# Altium schematic symbol library kmilo17pet-TI_StepDown.SchLib: 565 symbols (part 25 of 33)
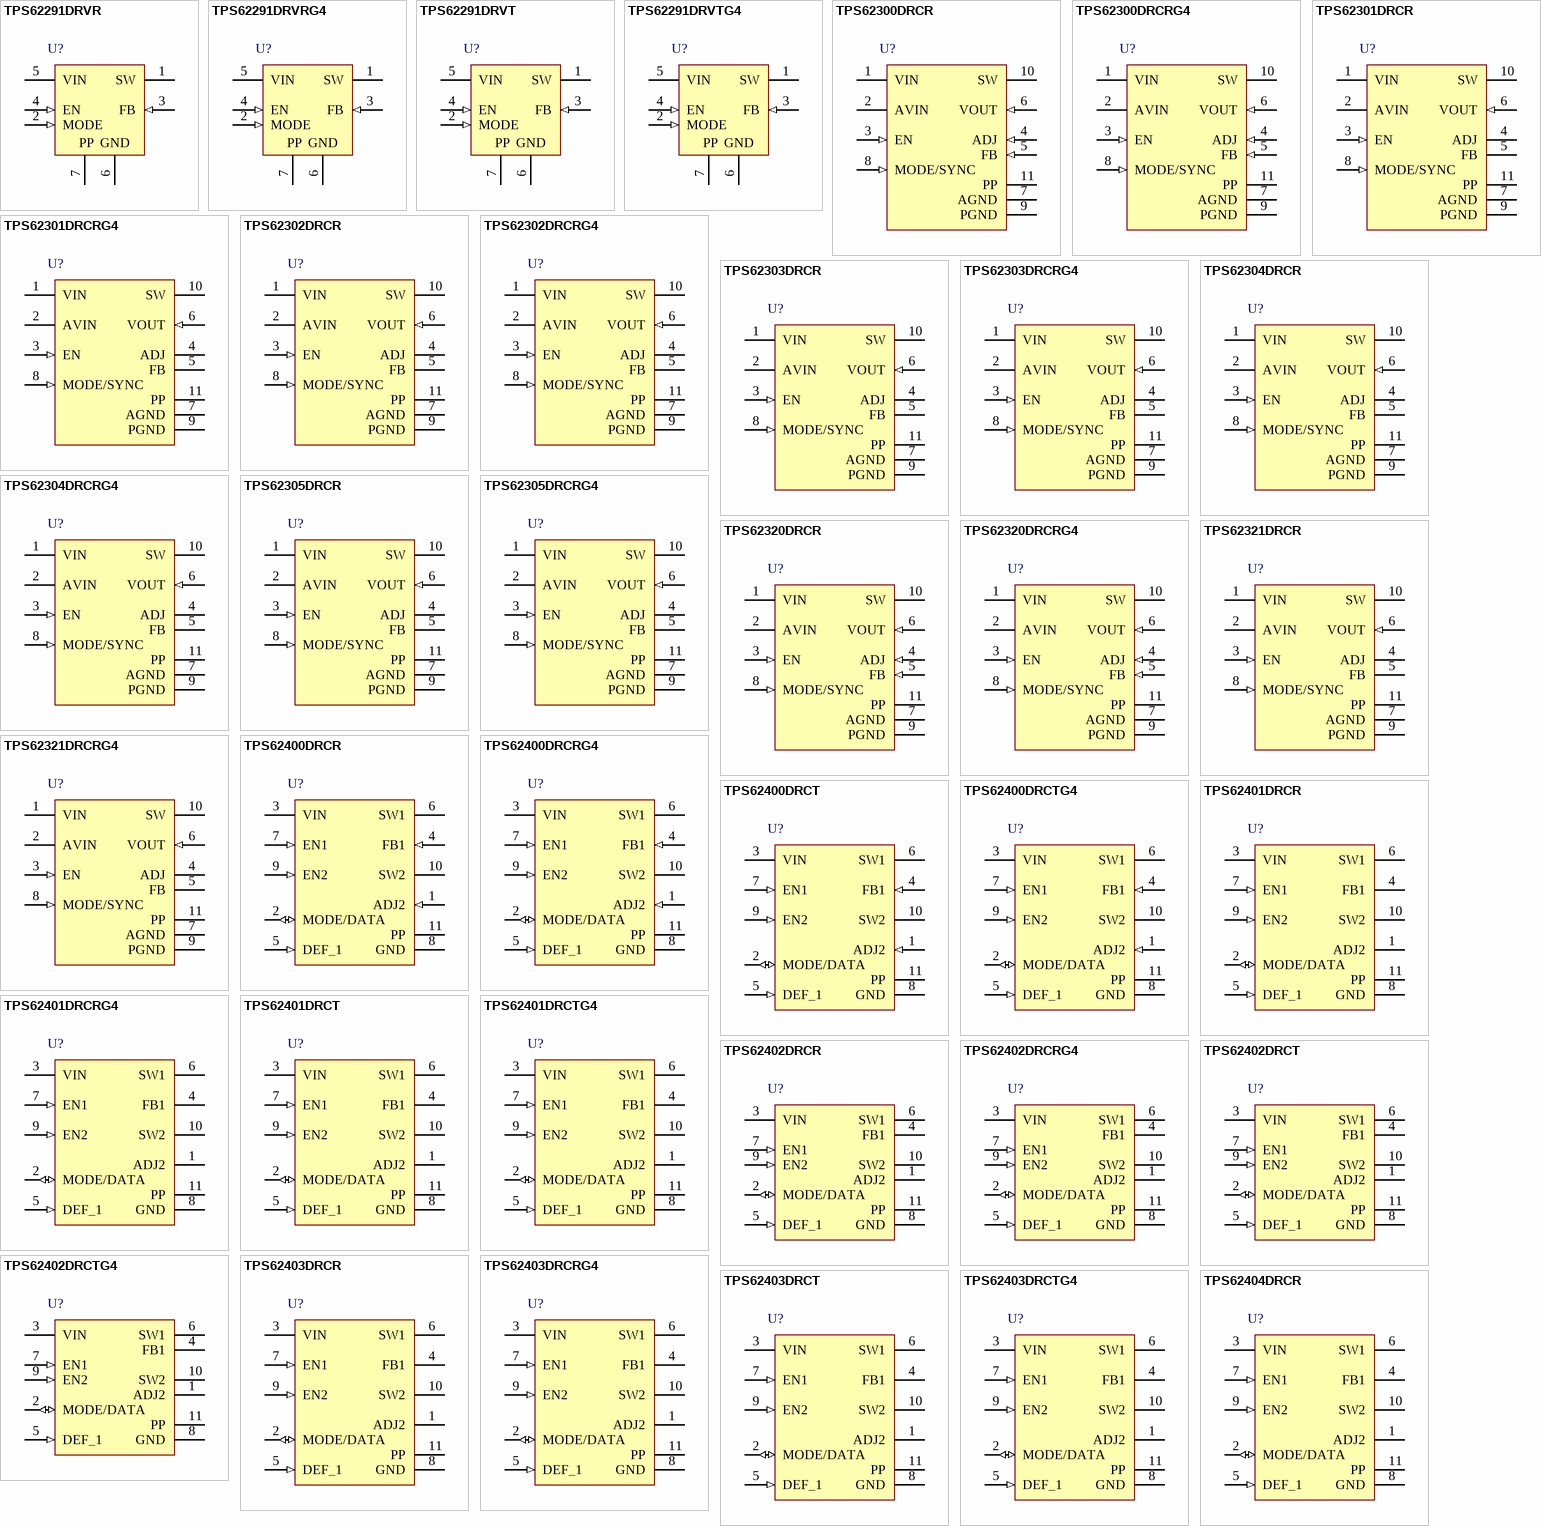
[diagram p43: symbols TPS62291DRVR to TPS62404DRCR]

## TPS62300DRCR
designator U?
Buck Adjustable Regulator with 2.7 to 6 V Input and 0.6 to 5.4 V Output, -40 to 85 degC, 10-Pin SON (DRC), Green (RoHS & no Sb/Br); Manufacturer: Texas Instruments; PartNumber: TPS62300DRCR; Duty Cycle(Max)(%): 100; Iout(Max)(A): 0.5; Iq(Typ)(mA): 0.086; Rating: Catalog; Regulated Outputs(#): 1; SubFamily: Step-Down Regulator; Switch Current Limit(Typ)(A): 0.74; Synchronous Rectification: TRUE; Vin(Max)(V): 6; Vin(Min)(V): 2.7; Vout(Max)(V): 5.4; Vout(Min)(V): 0.6; DatasheetVersion: SLVS528E; PackageVersion: revL, Sep-2011; PackageReference: DRC10-2400X1650TP; PackageDescription: 10-Pin Plastic Small Outline No-Lead, 3 x 3 x 1 mm Body, 0.5 mm Pitch, Exposed Pad; Supplier 1: Digi-Key; Supplier Part Number 1: 296-17594-2-ND; Eco-Plan: Green (RoHS & no Sb/Br); Topology: Buck; Mounting Technology: Surface Mount; ComponentLink1Description: Datasheet; ComponentLink1URL: http://www.ti.com/general/docs/lit/getliterature.tsp?genericPartNumber=TPS62300&fileType=pdf; ComponentLink2Description: Package Specification; ComponentLink2URL: http://www.ti.com/litv/pdf/mpds117k; ComponentLink3Description: URL Link1; ComponentLink3URL: Samples URL:http://www.ti.com/product/tps62300#samples
footprint DRC10-2400X1650TP (SON, 10-Leads, Body 3x3mm, Pitch 0.5mm, Thermal Pad 2.4x1.65mm, TI Recommended)
pins: 1 VIN (power) "Supply voltage for output power stage.", 2 AVIN (power) "This is the input voltage pin of the device. Connect directly to the input bypass capacitor.", 3 EN (in) "This is the enable pin of the device. Connecting this pin to ground forces the device into shutdown mode. Pulling this pin to VI enables the device. This pin must not be left floating and must be terminated.", 4 ADJ (in) "This is the internal reference voltage used to regulate VO. This pin is not connected on fixed output voltage version of TPS6230xDRC and TPS6232xDRC. Do not connect ADJ pin on fixed output voltage version of TPS6230xYZD, (See Datasheet)", 5 FB (in) "This is the feedback pin of the device. For the adjustable version, an external resistor divider is connected to this pin. The internal voltage divider is disabled for the adjustable version. This pin is not connected on (See Datasheet)", 6 VOUT (in) "Output feedback sense input. Connect VOUT to the converter’s output.", 7 AGND (power) "Analog ground. Connect to PGND via the PowerPAD underneath IC.", 8 MODE/SYNC (in) "Input for synchronization to external clock signal. This pin must not be left floating and must be terminated. Synchronizes the converter switching frequency to an external clock signal MODE/SYNC = LOW (GND):The device is (See Datasheet)", 9 PGND (power) "Power ground.", 10 SW (power) "This is the switch pin of the converter and is connected to the drain of the internal Power MOSFETs", 11 PP (power) "Exposed Thermal Pad"

## TPS62300DRCRG4
designator U?
Buck Adjustable Regulator with 2.7 to 6 V Input and 0.6 to 5.4 V Output, -40 to 85 degC, 10-Pin SON (DRC), Green (RoHS & no Sb/Br); Manufacturer: Texas Instruments; PartNumber: TPS62300DRCRG4; Duty Cycle(Max)(%): 100; Iout(Max)(A): 0.5; Iq(Typ)(mA): 0.086; Rating: Catalog; Regulated Outputs(#): 1; SubFamily: Step-Down Regulator; Switch Current Limit(Typ)(A): 0.74; Synchronous Rectification: TRUE; Vin(Max)(V): 6; Vin(Min)(V): 2.7; Vout(Max)(V): 5.4; Vout(Min)(V): 0.6; DatasheetVersion: SLVS528E; PackageVersion: revL, Sep-2011; PackageReference: DRC10-2400X1650TP; PackageDescription: 10-Pin Plastic Small Outline No-Lead, 3 x 3 x 1 mm Body, 0.5 mm Pitch, Exposed Pad; Supplier 1: Digi-Key; Supplier Part Number 1: TPS62300DRCRG4-ND; Eco-Plan: Green (RoHS & no Sb/Br); Topology: Buck; Mounting Technology: Surface Mount; ComponentLink1Description: Datasheet; ComponentLink1URL: http://www.ti.com/general/docs/lit/getliterature.tsp?genericPartNumber=TPS62300&fileType=pdf; ComponentLink2Description: Package Specification; ComponentLink2URL: http://www.ti.com/litv/pdf/mpds117k; ComponentLink3Description: URL Link1; ComponentLink3URL: Samples URL:http://www.ti.com/product/tps62300#samples
footprint DRC10-2400X1650TP (SON, 10-Leads, Body 3x3mm, Pitch 0.5mm, Thermal Pad 2.4x1.65mm, TI Recommended)
pins: 1 VIN (power) "Supply voltage for output power stage.", 2 AVIN (power) "This is the input voltage pin of the device. Connect directly to the input bypass capacitor.", 3 EN (in) "This is the enable pin of the device. Connecting this pin to ground forces the device into shutdown mode. Pulling this pin to VI enables the device. This pin must not be left floating and must be terminated.", 4 ADJ (in) "This is the internal reference voltage used to regulate VO. This pin is not connected on fixed output voltage version of TPS6230xDRC and TPS6232xDRC. Do not connect ADJ pin on fixed output voltage version of TPS6230xYZD, (See Datasheet)", 5 FB (in) "This is the feedback pin of the device. For the adjustable version, an external resistor divider is connected to this pin. The internal voltage divider is disabled for the adjustable version. This pin is not connected on (See Datasheet)", 6 VOUT (in) "Output feedback sense input. Connect VOUT to the converter’s output.", 7 AGND (power) "Analog ground. Connect to PGND via the PowerPAD underneath IC.", 8 MODE/SYNC (in) "Input for synchronization to external clock signal. This pin must not be left floating and must be terminated. Synchronizes the converter switching frequency to an external clock signal MODE/SYNC = LOW (GND):The device is (See Datasheet)", 9 PGND (power) "Power ground.", 10 SW (power) "This is the switch pin of the converter and is connected to the drain of the internal Power MOSFETs", 11 PP (power) "Exposed Thermal Pad"

## TPS62301DRCR
designator U?
Buck Step Down Regulator with 2.7 to 6 V Input and 1.5 V Output, -40 to 85 degC, 10-Pin SON (DRC), Green (RoHS & no Sb/Br); Manufacturer: Texas Instruments; PartNumber: TPS62301DRCR; Duty Cycle(Max)(%): 100; Iout(Max)(A): 0.5; Iq(Typ)(mA): 0.086; Preset Vout(V): 1.5; Rating: Catalog; Regulated Outputs(#): 1; SubFamily: Step-Down Regulator; Switch Current Limit(Typ)(A): 0.74; Synchronous Rectification: TRUE; Vin(Max)(V): 6; Vin(Min)(V): 2.7; DatasheetVersion: SLVS528E; PackageVersion: revL, Sep-2011; PackageReference: DRC10-2400X1650TP; PackageDescription: 10-Pin Plastic Small Outline No-Lead, 3 x 3 x 1 mm Body, 0.5 mm Pitch, Exposed Pad; Supplier 1: Digi-Key; Supplier Part Number 1: 296-17990-2-ND; Eco-Plan: Green (RoHS & no Sb/Br); Topology: Buck; Vout(Max)(V): 1.5; Vout(Min)(V): 1.5; Mounting Technology: Surface Mount; ComponentLink1Description: Datasheet; ComponentLink1URL: http://www.ti.com/general/docs/lit/getliterature.tsp?genericPartNumber=TPS62301&fileType=pdf; ComponentLink2Description: Package Specification; ComponentLink2URL: http://www.ti.com/litv/pdf/mpds117k; ComponentLink3Description: URL Link1; ComponentLink3URL: Samples URL:http://www.ti.com/product/tps62301#samples
footprint DRC10-2400X1650TP (SON, 10-Leads, Body 3x3mm, Pitch 0.5mm, Thermal Pad 2.4x1.65mm, TI Recommended)
pins: 1 VIN (power) "Supply voltage for output power stage.", 2 AVIN (power) "This is the input voltage pin of the device. Connect directly to the input bypass capacitor", 3 EN (in) "This is the enable pin of the device. Connecting this pin to ground forces the device into shutdown mode. Pulling this pin to VI enables the device. This pin must not be left floating and must be terminated.", 4 ADJ "This is the internal reference voltage used to regulate VO. This pin is not connected on fixed output voltage version of TPS6230xDRC and TPS6232xDRC. Do not connect ADJ pin on fixed output voltage version of TPS6230xYZD, (See Datasheet)", 5 FB "This is the feedback pin of the device. For the adjustable version, an external resistor divider is connected to this pin. The internal voltage divider is disabled for the adjustable version. This pin is not connected on (See Datasheet)", 6 VOUT (in) "Output feedback sense input. Connect VOUT to the converter’s output.", 7 AGND (power) "Analog ground. Connect to PGND via the PowerPAD underneath IC", 8 MODE/SYNC (in) "Input for synchronization to external clock signal. This pin must not be left floating and must be terminated. Synchronizes the converter switching frequency to an external clock signal MODE/SYNC = LOW (GND): The device is (See Datasheet)", 9 PGND (power) "Power ground.", 10 SW (power) "This is the switch pin of the converter and is connected to the drain of the internal Power MOSFETs", 11 PP (power) "Internally connected to PGND."

## TPS62301DRCRG4
designator U?
Buck Step Down Regulator with 2.7 to 6 V Input and 1.5 V Output, -40 to 85 degC, 10-Pin SON (DRC), Green (RoHS & no Sb/Br); Manufacturer: Texas Instruments; PartNumber: TPS62301DRCRG4; Duty Cycle(Max)(%): 100; Iout(Max)(A): 0.5; Iq(Typ)(mA): 0.086; Preset Vout(V): 1.5; Rating: Catalog; Regulated Outputs(#): 1; SubFamily: Step-Down Regulator; Switch Current Limit(Typ)(A): 0.74; Synchronous Rectification: TRUE; Vin(Max)(V): 6; Vin(Min)(V): 2.7; DatasheetVersion: SLVS528E; PackageVersion: revL, Sep-2011; PackageReference: DRC10-2400X1650TP; PackageDescription: 10-Pin Plastic Small Outline No-Lead, 3 x 3 x 1 mm Body, 0.5 mm Pitch, Exposed Pad; Supplier 1: Digi-Key; Supplier Part Number 1: TPS62301DRCRG4-ND; Eco-Plan: Green (RoHS & no Sb/Br); Topology: Buck; Vout(Max)(V): 1.5; Vout(Min)(V): 1.5; Mounting Technology: Surface Mount; ComponentLink1Description: Datasheet; ComponentLink1URL: http://www.ti.com/general/docs/lit/getliterature.tsp?genericPartNumber=TPS62301&fileType=pdf; ComponentLink2Description: Package Specification; ComponentLink2URL: http://www.ti.com/litv/pdf/mpds117k; ComponentLink3Description: URL Link1; ComponentLink3URL: Samples URL:http://www.ti.com/product/tps62301#samples
footprint DRC10-2400X1650TP (SON, 10-Leads, Body 3x3mm, Pitch 0.5mm, Thermal Pad 2.4x1.65mm, TI Recommended)
pins: 1 VIN (power) "Supply voltage for output power stage.", 2 AVIN (power) "This is the input voltage pin of the device. Connect directly to the input bypass capacitor", 3 EN (in) "This is the enable pin of the device. Connecting this pin to ground forces the device into shutdown mode. Pulling this pin to VI enables the device. This pin must not be left floating and must be terminated.", 4 ADJ "This is the internal reference voltage used to regulate VO. This pin is not connected on fixed output voltage version of TPS6230xDRC and TPS6232xDRC. Do not connect ADJ pin on fixed output voltage version of TPS6230xYZD, (See Datasheet)", 5 FB "This is the feedback pin of the device. For the adjustable version, an external resistor divider is connected to this pin. The internal voltage divider is disabled for the adjustable version. This pin is not connected on (See Datasheet)", 6 VOUT (in) "Output feedback sense input. Connect VOUT to the converter’s output.", 7 AGND (power) "Analog ground. Connect to PGND via the PowerPAD underneath IC", 8 MODE/SYNC (in) "Input for synchronization to external clock signal. This pin must not be left floating and must be terminated. Synchronizes the converter switching frequency to an external clock signal MODE/SYNC = LOW (GND): The device is (See Datasheet)", 9 PGND (power) "Power ground.", 10 SW (power) "This is the switch pin of the converter and is connected to the drain of the internal Power MOSFETs", 11 PP (power) "Internally connected to PGND."

## TPS62302DRCR
designator U?
Buck Step Down Regulator with 2.7 to 6 V Input and 1.6 V Output, -40 to 85 degC, 10-Pin SON (DRC), Green (RoHS & no Sb/Br); Manufacturer: Texas Instruments; PartNumber: TPS62302DRCR; Duty Cycle(Max)(%): 100; Iout(Max)(A): 0.5; Iq(Typ)(mA): 0.086; Preset Vout(V): 1.6; Rating: Catalog; Regulated Outputs(#): 1; SubFamily: Step-Down Regulator; Switch Current Limit(Typ)(A): 0.74; Synchronous Rectification: TRUE; Vin(Max)(V): 6; Vin(Min)(V): 2.7; DatasheetVersion: SLVS528E; PackageVersion: revL, Sep-2011; PackageReference: DRC10-2400X1650TP; PackageDescription: 10-Pin Plastic Small Outline No-Lead, 3 x 3 x 1 mm Body, 0.5 mm Pitch, Exposed Pad; Supplier 1: Digi-Key; Supplier Part Number 1: 296-18982-2-ND; Eco-Plan: Green (RoHS & no Sb/Br); Topology: Buck; Vout(Max)(V): 1.6; Vout(Min)(V): 1.6; Mounting Technology: Surface Mount; ComponentLink1Description: Datasheet; ComponentLink1URL: http://www.ti.com/general/docs/lit/getliterature.tsp?genericPartNumber=TPS62302&fileType=pdf; ComponentLink2Description: Package Specification; ComponentLink2URL: http://www.ti.com/litv/pdf/mpds117k; ComponentLink3Description: URL Link1; ComponentLink3URL: Samples URL:http://www.ti.com/product/tps62302#samples
footprint DRC10-2400X1650TP (SON, 10-Leads, Body 3x3mm, Pitch 0.5mm, Thermal Pad 2.4x1.65mm, TI Recommended)
pins: 1 VIN (power) "Supply voltage for output power stage.", 2 AVIN (power) "This is the input voltage pin of the device. Connect directly to the input bypass capacitor.", 3 EN (in) "This is the enable pin of the device. Connecting this pin to ground forces the device into shutdown mode. Pulling this pin to VI enables the device. This pin must not be left floating and must be terminated.", 4 ADJ "This is the internal reference voltage used to regulate VO. This pin is not connected on fixed output voltage version of TPS6230xDRC and TPS6232xDRC. Do not connect ADJ pin on fixed output voltage version of TPS6230xYZD, (See Datasheet)", 5 FB "This is the feedback pin of the device. For the adjustable version, an external resistor divider is connected to this pin. The internal voltage divider is disabled for the adjustable version. This pin is not connected on (See Datasheet)", 6 VOUT (in) "Output feedback sense input. Connect VOUT to the converter’s output.", 7 AGND (power) "Analog ground. Connect to PGND via the PowerPAD underneath IC.", 8 MODE/SYNC (in) "Input for synchronization to external clock signal. This pin must not be left floating and must be terminated. Synchronizes the converter switching frequency to an external clock signal MODE/SYNC = LOW (GND): The device is (See Datasheet)", 9 PGND (power) "Power ground.", 10 SW (power) "This is the switch pin of the converter and is connected to the drain of the internal Power MOSFETs.", 11 PP (power) "Internally connected to PGND."

## TPS62302DRCRG4
designator U?
Buck Step Down Regulator with 2.7 to 6 V Input and 1.6 V Output, -40 to 85 degC, 10-Pin SON (DRC), Green (RoHS & no Sb/Br); Manufacturer: Texas Instruments; PartNumber: TPS62302DRCRG4; Duty Cycle(Max)(%): 100; Iout(Max)(A): 0.5; Iq(Typ)(mA): 0.086; Preset Vout(V): 1.6; Rating: Catalog; Regulated Outputs(#): 1; SubFamily: Step-Down Regulator; Switch Current Limit(Typ)(A): 0.74; Synchronous Rectification: TRUE; Vin(Max)(V): 6; Vin(Min)(V): 2.7; DatasheetVersion: SLVS528E; PackageVersion: revL, Sep-2011; PackageReference: DRC10-2400X1650TP; PackageDescription: 10-Pin Plastic Small Outline No-Lead, 3 x 3 x 1 mm Body, 0.5 mm Pitch, Exposed Pad; Supplier 1: Digi-Key; Supplier Part Number 1: TPS62302DRCRG4-ND; Eco-Plan: Green (RoHS & no Sb/Br); Topology: Buck; Vout(Max)(V): 1.6; Vout(Min)(V): 1.6; Mounting Technology: Surface Mount; ComponentLink1Description: Datasheet; ComponentLink1URL: http://www.ti.com/general/docs/lit/getliterature.tsp?genericPartNumber=TPS62302&fileType=pdf; ComponentLink2Description: Package Specification; ComponentLink2URL: http://www.ti.com/litv/pdf/mpds117k; ComponentLink3Description: URL Link1; ComponentLink3URL: Samples URL:http://www.ti.com/product/tps62302#samples
footprint DRC10-2400X1650TP (SON, 10-Leads, Body 3x3mm, Pitch 0.5mm, Thermal Pad 2.4x1.65mm, TI Recommended)
pins: 1 VIN (power) "Supply voltage for output power stage.", 2 AVIN (power) "This is the input voltage pin of the device. Connect directly to the input bypass capacitor.", 3 EN (in) "This is the enable pin of the device. Connecting this pin to ground forces the device into shutdown mode. Pulling this pin to VI enables the device. This pin must not be left floating and must be terminated.", 4 ADJ "This is the internal reference voltage used to regulate VO. This pin is not connected on fixed output voltage version of TPS6230xDRC and TPS6232xDRC. Do not connect ADJ pin on fixed output voltage version of TPS6230xYZD, (See Datasheet)", 5 FB "This is the feedback pin of the device. For the adjustable version, an external resistor divider is connected to this pin. The internal voltage divider is disabled for the adjustable version. This pin is not connected on (See Datasheet)", 6 VOUT (in) "Output feedback sense input. Connect VOUT to the converter’s output.", 7 AGND (power) "Analog ground. Connect to PGND via the PowerPAD underneath IC.", 8 MODE/SYNC (in) "Input for synchronization to external clock signal. This pin must not be left floating and must be terminated. Synchronizes the converter switching frequency to an external clock signal MODE/SYNC = LOW (GND): The device is (See Datasheet)", 9 PGND (power) "Power ground.", 10 SW (power) "This is the switch pin of the converter and is connected to the drain of the internal Power MOSFETs.", 11 PP (power) "Internally connected to PGND."

## TPS62303DRCR
designator U?
Buck Step Down Regulator with 2.7 to 6 V Input and 1.8 V Output, -40 to 85 degC, 10-Pin SON (DRC), Green (RoHS & no Sb/Br); Manufacturer: Texas Instruments; PartNumber: TPS62303DRCR; Duty Cycle(Max)(%): 100; Iout(Max)(A): 0.5; Iq(Typ)(mA): 0.086; Preset Vout(V): 1.8; Rating: Catalog; Regulated Outputs(#): 1; SubFamily: Step-Down Regulator; Switch Current Limit(Typ)(A): 0.74; Synchronous Rectification: TRUE; Vin(Max)(V): 6; Vin(Min)(V): 2.7; DatasheetVersion: SLVS528E; PackageVersion: revL, Sep-2011; PackageReference: DRC10-2400X1650TP; PackageDescription: 10-Pin Plastic Small Outline No-Lead, 3 x 3 x 1 mm Body, 0.5 mm Pitch, Exposed Pad; Supplier 1: Digi-Key; Supplier Part Number 1: 296-18983-2-ND; Eco-Plan: Green (RoHS & no Sb/Br); Topology: Buck; Vout(Max)(V): 1.8; Vout(Min)(V): 1.8; Mounting Technology: Surface Mount; ComponentLink1Description: Datasheet; ComponentLink1URL: http://www.ti.com/general/docs/lit/getliterature.tsp?genericPartNumber=TPS62303&fileType=pdf; ComponentLink2Description: Package Specification; ComponentLink2URL: http://www.ti.com/litv/pdf/mpds117k; ComponentLink3Description: URL Link1; ComponentLink3URL: Samples URL:http://www.ti.com/product/tps62303#samples
footprint DRC10-2400X1650TP (SON, 10-Leads, Body 3x3mm, Pitch 0.5mm, Thermal Pad 2.4x1.65mm, TI Recommended)
pins: 1 VIN (power) "Supply voltage for output power stage.", 2 AVIN (power) "This is the input voltage pin of the device. Connect directly to the input bypass capacitor.", 3 EN (in) "This is the enable pin of the device. Connecting this pin to ground forces the device into shutdown mode. Pulling this pin to VI enables the device. This pin must not be left floating and must be terminated.", 4 ADJ "This is the internal reference voltage used to regulate VO. This pin is not connected on fixed output voltage version of TPS6230xDRC and TPS6232xDRC. Do not connect ADJ pin on fixed output voltage version of TPS6230xYZD, (See Datasheet)", 5 FB "This is the feedback pin of the device. For the adjustable version, an external resistor divider is connected to this pin. The internal voltage divider is disabled for the adjustable version. This pin is not connected on (See Datasheet)", 6 VOUT (in) "Output feedback sense input. Connect VOUT to the converter’s output.", 7 AGND (power) "Analog ground. Connect to PGND via the PowerPAD underneath IC.", 8 MODE/SYNC (in) "Input for synchronization to external clock signal. This pin must not be left floating and must be terminated. Synchronizes the converter switching frequency to an external clock signal MODE/SYNC = LOW (GND):The device is (See Datasheet)", 9 PGND (power) "Power ground.", 10 SW (power) "This is the switch pin of the converter and is connected to the drain of the internal Power MOSFETs", 11 PP (power) "Internally connected to PGND."

## TPS62303DRCRG4
designator U?
Buck Step Down Regulator with 2.7 to 6 V Input and 1.8 V Output, -40 to 85 degC, 10-Pin SON (DRC), Green (RoHS & no Sb/Br); Manufacturer: Texas Instruments; PartNumber: TPS62303DRCRG4; Duty Cycle(Max)(%): 100; Iout(Max)(A): 0.5; Iq(Typ)(mA): 0.086; Preset Vout(V): 1.8; Rating: Catalog; Regulated Outputs(#): 1; SubFamily: Step-Down Regulator; Switch Current Limit(Typ)(A): 0.74; Synchronous Rectification: TRUE; Vin(Max)(V): 6; Vin(Min)(V): 2.7; DatasheetVersion: SLVS528E; PackageVersion: revL, Sep-2011; PackageReference: DRC10-2400X1650TP; PackageDescription: 10-Pin Plastic Small Outline No-Lead, 3 x 3 x 1 mm Body, 0.5 mm Pitch, Exposed Pad; Supplier 1: Digi-Key; Supplier Part Number 1: TPS62303DRCRG4-ND; Eco-Plan: Green (RoHS & no Sb/Br); Topology: Buck; Vout(Max)(V): 1.8; Vout(Min)(V): 1.8; Mounting Technology: Surface Mount; ComponentLink1Description: Datasheet; ComponentLink1URL: http://www.ti.com/general/docs/lit/getliterature.tsp?genericPartNumber=TPS62303&fileType=pdf; ComponentLink2Description: Package Specification; ComponentLink2URL: http://www.ti.com/litv/pdf/mpds117k; ComponentLink3Description: URL Link1; ComponentLink3URL: Samples URL:http://www.ti.com/product/tps62303#samples
footprint DRC10-2400X1650TP (SON, 10-Leads, Body 3x3mm, Pitch 0.5mm, Thermal Pad 2.4x1.65mm, TI Recommended)
pins: 1 VIN (power) "Supply voltage for output power stage.", 2 AVIN (power) "This is the input voltage pin of the device. Connect directly to the input bypass capacitor.", 3 EN (in) "This is the enable pin of the device. Connecting this pin to ground forces the device into shutdown mode. Pulling this pin to VI enables the device. This pin must not be left floating and must be terminated.", 4 ADJ "This is the internal reference voltage used to regulate VO. This pin is not connected on fixed output voltage version of TPS6230xDRC and TPS6232xDRC. Do not connect ADJ pin on fixed output voltage version of TPS6230xYZD, (See Datasheet)", 5 FB "This is the feedback pin of the device. For the adjustable version, an external resistor divider is connected to this pin. The internal voltage divider is disabled for the adjustable version. This pin is not connected on (See Datasheet)", 6 VOUT (in) "Output feedback sense input. Connect VOUT to the converter’s output.", 7 AGND (power) "Analog ground. Connect to PGND via the PowerPAD underneath IC.", 8 MODE/SYNC (in) "Input for synchronization to external clock signal. This pin must not be left floating and must be terminated. Synchronizes the converter switching frequency to an external clock signal MODE/SYNC = LOW (GND):The device is (See Datasheet)", 9 PGND (power) "Power ground.", 10 SW (power) "This is the switch pin of the converter and is connected to the drain of the internal Power MOSFETs", 11 PP (power) "Internally connected to PGND."

## TPS62304DRCR
designator U?
Buck Step Down Regulator with 2.7 to 6 V Input and 1.2 V Output, -40 to 85 degC, 10-Pin SON (DRC), Green (RoHS & no Sb/Br); Manufacturer: Texas Instruments; PartNumber: TPS62304DRCR; Duty Cycle(Max)(%): 100; Iout(Max)(A): 0.5; Iq(Typ)(mA): 0.086; Preset Vout(V): 1.2; Rating: Catalog; Regulated Outputs(#): 1; SubFamily: Step-Down Regulator; Switch Current Limit(Typ)(A): 0.74; Synchronous Rectification: TRUE; Vin(Max)(V): 6; Vin(Min)(V): 2.7; DatasheetVersion: SLVS528E; PackageVersion: revL, Sep-2011; PackageReference: DRC10-2400X1650TP; PackageDescription: 10-Pin Plastic Small Outline No-Lead, 3 x 3 x 1 mm Body, 0.5 mm Pitch, Exposed Pad; Supplier 1: Digi-Key; Supplier Part Number 1: 296-19297-2-ND; Eco-Plan: Green (RoHS & no Sb/Br); Topology: Buck; Vout(Max)(V): 1.2; Vout(Min)(V): 1.2; Mounting Technology: Surface Mount; ComponentLink1Description: Datasheet; ComponentLink1URL: http://www.ti.com/general/docs/lit/getliterature.tsp?genericPartNumber=TPS62304&fileType=pdf; ComponentLink2Description: Package Specification; ComponentLink2URL: http://www.ti.com/litv/pdf/mpds117k; ComponentLink3Description: URL Link1; ComponentLink3URL: Samples URL:http://www.ti.com/product/tps62304#samples
footprint DRC10-2400X1650TP (SON, 10-Leads, Body 3x3mm, Pitch 0.5mm, Thermal Pad 2.4x1.65mm, TI Recommended)
pins: 1 VIN (power) "Supply voltage for output power stage.", 2 AVIN (power) "This is the input voltage pin of the device. Connect directly to the input bypass capacitor.", 3 EN (in) "This is the enable pin of the device. Connecting this pin to ground forces the device into shutdown mode. Pulling this pin to VI enables the device. This pin must not be left floating and must be terminated.", 4 ADJ "No Connect", 5 FB "No Connect", 6 VOUT (in) "Output feedback sense input. Connect VOUT to the converter’s output.", 7 AGND (power) "Analog ground. Connect to PGND via the PowerPAD underneath IC.", 8 MODE/SYNC (in) "Input for synchronization to external clock signal. This pin must not be left floating and must be terminated. Synchronizes the converter switching frequency to an external clock signal  MODE/SYNC = LOW (GND): The device is (See Datasheet)", 9 PGND (power) "Power ground.", 10 SW (power) "This is the switch pin of the converter and is connected to the drain of the internal Power MOSFETs.", 11 PP (power) "Internally connected to PGND."

## TPS62304DRCRG4
designator U?
Buck Step Down Regulator with 2.7 to 6 V Input and 1.2 V Output, -40 to 85 degC, 10-Pin SON (DRC), Green (RoHS & no Sb/Br); Manufacturer: Texas Instruments; PartNumber: TPS62304DRCRG4; Duty Cycle(Max)(%): 100; Iout(Max)(A): 0.5; Iq(Typ)(mA): 0.086; Preset Vout(V): 1.2; Rating: Catalog; Regulated Outputs(#): 1; SubFamily: Step-Down Regulator; Switch Current Limit(Typ)(A): 0.74; Synchronous Rectification: TRUE; Vin(Max)(V): 6; Vin(Min)(V): 2.7; DatasheetVersion: SLVS528E; PackageVersion: revL, Sep-2011; PackageReference: DRC10-2400X1650TP; PackageDescription: 10-Pin Plastic Small Outline No-Lead, 3 x 3 x 1 mm Body, 0.5 mm Pitch, Exposed Pad; Supplier 1: Digi-Key; Supplier Part Number 1: TPS62304DRCRG4-ND; Eco-Plan: Green (RoHS & no Sb/Br); Topology: Buck; Vout(Max)(V): 1.2; Vout(Min)(V): 1.2; Mounting Technology: Surface Mount; ComponentLink1Description: Datasheet; ComponentLink1URL: http://www.ti.com/general/docs/lit/getliterature.tsp?genericPartNumber=TPS62304&fileType=pdf; ComponentLink2Description: Package Specification; ComponentLink2URL: http://www.ti.com/litv/pdf/mpds117k; ComponentLink3Description: URL Link1; ComponentLink3URL: Samples URL:http://www.ti.com/product/tps62304#samples
footprint DRC10-2400X1650TP (SON, 10-Leads, Body 3x3mm, Pitch 0.5mm, Thermal Pad 2.4x1.65mm, TI Recommended)
pins: 1 VIN (power) "Supply voltage for output power stage.", 2 AVIN (power) "This is the input voltage pin of the device. Connect directly to the input bypass capacitor.", 3 EN (in) "This is the enable pin of the device. Connecting this pin to ground forces the device into shutdown mode. Pulling this pin to VI enables the device. This pin must not be left floating and must be terminated.", 4 ADJ "No Connect", 5 FB "No Connect", 6 VOUT (in) "Output feedback sense input. Connect VOUT to the converter’s output.", 7 AGND (power) "Analog ground. Connect to PGND via the PowerPAD underneath IC.", 8 MODE/SYNC (in) "Input for synchronization to external clock signal. This pin must not be left floating and must be terminated. Synchronizes the converter switching frequency to an external clock signal  MODE/SYNC = LOW (GND): The device is (See Datasheet)", 9 PGND (power) "Power ground.", 10 SW (power) "This is the switch pin of the converter and is connected to the drain of the internal Power MOSFETs.", 11 PP (power) "Internally connected to PGND."

## TPS62305DRCR
designator U?
Buck Step Down Regulator with 2.7 to 6 V Input and 1.875 V Output, -40 to 85 degC, 10-Pin SON (DRC), Green (RoHS & no Sb/Br); Manufacturer: Texas Instruments; PartNumber: TPS62305DRCR; Duty Cycle(Max)(%): 100; Iout(Max)(A): 0.5; Iq(Typ)(mA): 0.086; Preset Vout(V): 1.875; Rating: Catalog; Regulated Outputs(#): 1; SubFamily: Step-Down Regulator; Switch Current Limit(Typ)(A): 0.74; Synchronous Rectification: TRUE; Vin(Max)(V): 6; Vin(Min)(V): 2.7; DatasheetVersion: SLVS528E; PackageVersion: revL, Sep-2011; PackageReference: DRC10-2400X1650TP; PackageDescription: 10-Pin Plastic Small Outline No-Lead, 3 x 3 x 1 mm Body, 0.5 mm Pitch, Exposed Pad; Supplier 1: Digi-Key; Supplier Part Number 1: 296-18984-2-ND; Eco-Plan: Green (RoHS & no Sb/Br); Topology: Buck; Vout(Max)(V): 1.875; Vout(Min)(V): 1.875; Mounting Technology: Surface Mount; ComponentLink1Description: Datasheet; ComponentLink1URL: http://www.ti.com/general/docs/lit/getliterature.tsp?genericPartNumber=TPS62305&fileType=pdf; ComponentLink2Description: Package Specification; ComponentLink2URL: http://www.ti.com/litv/pdf/mpds117k; ComponentLink3Description: URL Link1; ComponentLink3URL: Samples URL:http://www.ti.com/product/tps62305#samples
footprint DRC10-2400X1650TP (SON, 10-Leads, Body 3x3mm, Pitch 0.5mm, Thermal Pad 2.4x1.65mm, TI Recommended)
pins: 1 VIN (power) "Supply voltage for output power stage.", 2 AVIN (power) "This is the input voltage pin of the device. Connect directly to the input bypass capacitor.", 3 EN (in) "This is the enable pin of the device. Connecting this pin to ground forces the device into shutdown mode. Pulling this pin to VI enables the device. This pin must not be left floating and must be terminated.", 4 ADJ "This is the internal reference voltage used to regulate VO. This pin is not connected on fixed output voltage version of TPS6230xDRC and TPS6232xDRC. Do not connect ADJ pin on fixed output voltage version of TPS6230xYZD, (See Datasheet)", 5 FB "This is the feedback pin of the device. For the adjustable version, an external resistor divider is connected to this pin. The internal voltage divider is disabled for the adjustable version. This pin is not connected on (See Datasheet)", 6 VOUT (in) "Output feedback sense input. Connect VOUT to the converter’s output.", 7 AGND (power) "Analog ground. Connect to PGND via the PowerPAD underneath IC.", 8 MODE/SYNC (in) "Input for synchronization to external clock signal. This pin must not be left floating and must be terminated. Synchronizes the converter switching frequency to an external clock signal MODE/SYNC = LOW (GND): The device is (See Datasheet)", 9 PGND (power) "Power ground.", 10 SW (power) "This is the switch pin of the converter and is connected to the drain of the internal Power MOSFETs.", 11 PP (power) "Internally connected to PGND."

## TPS62305DRCRG4
designator U?
Buck Step Down Regulator with 2.7 to 6 V Input and 1.875 V Output, -40 to 85 degC, 10-Pin SON (DRC), Green (RoHS & no Sb/Br); Manufacturer: Texas Instruments; PartNumber: TPS62305DRCRG4; Duty Cycle(Max)(%): 100; Iout(Max)(A): 0.5; Iq(Typ)(mA): 0.086; Preset Vout(V): 1.875; Rating: Catalog; Regulated Outputs(#): 1; SubFamily: Step-Down Regulator; Switch Current Limit(Typ)(A): 0.74; Synchronous Rectification: TRUE; Vin(Max)(V): 6; Vin(Min)(V): 2.7; DatasheetVersion: SLVS528E; PackageVersion: revL, Sep-2011; PackageReference: DRC10-2400X1650TP; PackageDescription: 10-Pin Plastic Small Outline No-Lead, 3 x 3 x 1 mm Body, 0.5 mm Pitch, Exposed Pad; Supplier 1: Digi-Key; Supplier Part Number 1: TPS62305DRCRG4-ND; Eco-Plan: Green (RoHS & no Sb/Br); Topology: Buck; Vout(Max)(V): 1.875; Vout(Min)(V): 1.875; Mounting Technology: Surface Mount; ComponentLink1Description: Datasheet; ComponentLink1URL: http://www.ti.com/general/docs/lit/getliterature.tsp?genericPartNumber=TPS62305&fileType=pdf; ComponentLink2Description: Package Specification; ComponentLink2URL: http://www.ti.com/litv/pdf/mpds117k; ComponentLink3Description: URL Link1; ComponentLink3URL: Samples URL:http://www.ti.com/product/tps62305#samples
footprint DRC10-2400X1650TP (SON, 10-Leads, Body 3x3mm, Pitch 0.5mm, Thermal Pad 2.4x1.65mm, TI Recommended)
pins: 1 VIN (power) "Supply voltage for output power stage.", 2 AVIN (power) "This is the input voltage pin of the device. Connect directly to the input bypass capacitor.", 3 EN (in) "This is the enable pin of the device. Connecting this pin to ground forces the device into shutdown mode. Pulling this pin to VI enables the device. This pin must not be left floating and must be terminated.", 4 ADJ "This is the internal reference voltage used to regulate VO. This pin is not connected on fixed output voltage version of TPS6230xDRC and TPS6232xDRC. Do not connect ADJ pin on fixed output voltage version of TPS6230xYZD, (See Datasheet)", 5 FB "This is the feedback pin of the device. For the adjustable version, an external resistor divider is connected to this pin. The internal voltage divider is disabled for the adjustable version. This pin is not connected on (See Datasheet)", 6 VOUT (in) "Output feedback sense input. Connect VOUT to the converter’s output.", 7 AGND (power) "Analog ground. Connect to PGND via the PowerPAD underneath IC.", 8 MODE/SYNC (in) "Input for synchronization to external clock signal. This pin must not be left floating and must be terminated. Synchronizes the converter switching frequency to an external clock signal MODE/SYNC = LOW (GND): The device is (See Datasheet)", 9 PGND (power) "Power ground.", 10 SW (power) "This is the switch pin of the converter and is connected to the drain of the internal Power MOSFETs.", 11 PP (power) "Internally connected to PGND."

## TPS62320DRCR
designator U?
Buck Adjustable Regulator with 2.7 to 6 V Input and 0.6 to 5.4 V Output, -40 to 85 degC, 10-Pin SON (DRC), Green (RoHS & no Sb/Br); Manufacturer: Texas Instruments; PartNumber: TPS62320DRCR; Duty Cycle(Max)(%): 100; Iout(Max)(A): 0.5; Iq(Typ)(mA): 0.086; Rating: Catalog; Regulated Outputs(#): 1; SubFamily: Step-Down Regulator; Switch Current Limit(Typ)(A): 0.74; Synchronous Rectification: TRUE; Vin(Max)(V): 6; Vin(Min)(V): 2.7; Vout(Max)(V): 5.4; Vout(Min)(V): 0.6; DatasheetVersion: SLVS528E; PackageVersion: revL, Sep-2011; PackageReference: DRC10-2400X1650TP; PackageDescription: 10-Pin Plastic Small Outline No-Lead, 3 x 3 x 1 mm Body, 0.5 mm Pitch, Exposed Pad; Supplier 1: Digi-Key; Supplier Part Number 1: 296-18985-2-ND; Eco-Plan: Green (RoHS & no Sb/Br); Topology: Buck; Mounting Technology: Surface Mount; ComponentLink1Description: Datasheet; ComponentLink1URL: http://www.ti.com/general/docs/lit/getliterature.tsp?genericPartNumber=TPS62320&fileType=pdf; ComponentLink2Description: Package Specification; ComponentLink2URL: http://www.ti.com/litv/pdf/mpds117k; ComponentLink3Description: URL Link1; ComponentLink3URL: Samples URL:http://www.ti.com/product/tps62320#samples
footprint DRC10-2400X1650TP (SON, 10-Leads, Body 3x3mm, Pitch 0.5mm, Thermal Pad 2.4x1.65mm, TI Recommended)
pins: 1 VIN (power) "Supply voltage for output power stage.", 2 AVIN (power) "This is the input voltage pin of the device. Connect directly to the input bypass capacitor.", 3 EN (in) "This is the enable pin of the device. Connecting this pin to ground forces the device into shutdown mode. Pulling this pin to VI enables the device. This pin must not be left floating and must be terminated.", 4 ADJ (in) "This is the internal reference voltage used to regulate VO. This pin is not connected on fixed output voltage version of TPS6230xDRC and TPS6232xDRC. Do not connect ADJ pin on fixed output voltage version of TPS6230xYZD, (See Datasheet)", 5 FB (in) "This is the feedback pin of the device. For the adjustable version, an external resistor divider is connected to this pin. The internal voltage divider is disabled for the adjustable version. This pin is not connected on (See Datasheet)", 6 VOUT (in) "Output feedback sense input. Connect VOUT to the converter’s output.", 7 AGND (power) "Analog ground. Connect to PGND via the PowerPAD underneath IC.", 8 MODE/SYNC (in) "Input for synchronization to external clock signal. This pin must not be left floating and must be terminated. Synchronizes the converter switching frequency to an external clock signal MODE/SYNC = LOW (GND): The device is (See Datasheet)", 9 PGND (power) "Power ground.", 10 SW (power) "This is the switch pin of the converter and is connected to the drain of the internal Power MOSFETs.", 11 PP (power) "Internally connected to PGND."

## TPS62320DRCRG4
designator U?
Buck Adjustable Regulator with 2.7 to 6 V Input and 0.6 to 5.4 V Output, -40 to 85 degC, 10-Pin SON (DRC), Green (RoHS & no Sb/Br); Manufacturer: Texas Instruments; PartNumber: TPS62320DRCRG4; Duty Cycle(Max)(%): 100; Iout(Max)(A): 0.5; Iq(Typ)(mA): 0.086; Rating: Catalog; Regulated Outputs(#): 1; SubFamily: Step-Down Regulator; Switch Current Limit(Typ)(A): 0.74; Synchronous Rectification: TRUE; Vin(Max)(V): 6; Vin(Min)(V): 2.7; Vout(Max)(V): 5.4; Vout(Min)(V): 0.6; DatasheetVersion: SLVS528E; PackageVersion: revL, Sep-2011; PackageReference: DRC10-2400X1650TP; PackageDescription: 10-Pin Plastic Small Outline No-Lead, 3 x 3 x 1 mm Body, 0.5 mm Pitch, Exposed Pad; Supplier 1: Digi-Key; Supplier Part Number 1: TPS62320DRCRG4-ND; Eco-Plan: Green (RoHS & no Sb/Br); Topology: Buck; Mounting Technology: Surface Mount; ComponentLink1Description: Datasheet; ComponentLink1URL: http://www.ti.com/general/docs/lit/getliterature.tsp?genericPartNumber=TPS62320&fileType=pdf; ComponentLink2Description: Package Specification; ComponentLink2URL: http://www.ti.com/litv/pdf/mpds117k; ComponentLink3Description: URL Link1; ComponentLink3URL: Samples URL:http://www.ti.com/product/tps62320#samples
footprint DRC10-2400X1650TP (SON, 10-Leads, Body 3x3mm, Pitch 0.5mm, Thermal Pad 2.4x1.65mm, TI Recommended)
pins: 1 VIN (power) "Supply voltage for output power stage.", 2 AVIN (power) "This is the input voltage pin of the device. Connect directly to the input bypass capacitor.", 3 EN (in) "This is the enable pin of the device. Connecting this pin to ground forces the device into shutdown mode. Pulling this pin to VI enables the device. This pin must not be left floating and must be terminated.", 4 ADJ (in) "This is the internal reference voltage used to regulate VO. This pin is not connected on fixed output voltage version of TPS6230xDRC and TPS6232xDRC. Do not connect ADJ pin on fixed output voltage version of TPS6230xYZD, (See Datasheet)", 5 FB (in) "This is the feedback pin of the device. For the adjustable version, an external resistor divider is connected to this pin. The internal voltage divider is disabled for the adjustable version. This pin is not connected on (See Datasheet)", 6 VOUT (in) "Output feedback sense input. Connect VOUT to the converter’s output.", 7 AGND (power) "Analog ground. Connect to PGND via the PowerPAD underneath IC.", 8 MODE/SYNC (in) "Input for synchronization to external clock signal. This pin must not be left floating and must be terminated. Synchronizes the converter switching frequency to an external clock signal MODE/SYNC = LOW (GND): The device is (See Datasheet)", 9 PGND (power) "Power ground.", 10 SW (power) "This is the switch pin of the converter and is connected to the drain of the internal Power MOSFETs.", 11 PP (power) "Internally connected to PGND."

## TPS62321DRCR
designator U?
Buck Step Down Regulator with 2.7 to 6 V Input and 1.5 V Output, -40 to 85 degC, 10-Pin SON (DRC), Green (RoHS & no Sb/Br); Manufacturer: Texas Instruments; PartNumber: TPS62321DRCR; Duty Cycle(Max)(%): 100; Iout(Max)(A): 0.5; Iq(Typ)(mA): 0.086; Preset Vout(V): 1.5; Rating: Catalog; Regulated Outputs(#): 1; SubFamily: Step-Down Regulator; Switch Current Limit(Typ)(A): 0.74; Synchronous Rectification: TRUE; Vin(Max)(V): 6; Vin(Min)(V): 2.7; DatasheetVersion: SLVS528E; PackageVersion: revL, Sep-2011; PackageReference: DRC10-2400X1650TP; PackageDescription: 10-Pin Plastic Small Outline No-Lead, 3 x 3 x 1 mm Body, 0.5 mm Pitch, Exposed Pad; Supplier 1: Digi-Key; Supplier Part Number 1: 296-18986-2-ND; Eco-Plan: Green (RoHS & no Sb/Br); Topology: Buck; Vout(Max)(V): 1.5; Vout(Min)(V): 1.5; Mounting Technology: Surface Mount; ComponentLink1Description: Datasheet; ComponentLink1URL: http://www.ti.com/general/docs/lit/getliterature.tsp?genericPartNumber=TPS62321&fileType=pdf; ComponentLink2Description: Package Specification; ComponentLink2URL: http://www.ti.com/litv/pdf/mpds117k; ComponentLink3Description: URL Link1; ComponentLink3URL: Samples URL:http://www.ti.com/product/tps62321#samples
footprint DRC10-2400X1650TP (SON, 10-Leads, Body 3x3mm, Pitch 0.5mm, Thermal Pad 2.4x1.65mm, TI Recommended)
pins: 1 VIN (power) "Supply voltage for output power stage.", 2 AVIN (power) "This is the input voltage pin of the device. Connect directly to the input bypass capacitor.", 3 EN (in) "This is the enable pin of the device. Connecting this pin to ground forces the device into shutdown mode. Pulling this pin to VI enables the device. This pin must not be left floating and must be terminated.", 4 ADJ "This is the internal reference voltage used to regulate VO. This pin is not connected on fixed output voltage version of TPS6230xDRC and TPS6232xDRC. Do not connect ADJ pin on fixed output voltage version of TPS6230xYZD, (See Datasheet)", 5 FB "This is the feedback pin of the device. For the adjustable version, an external resistor divider is connected to this pin. The internal voltage divider is disabled for the adjustable version. This pin is not connected on (See Datasheet)", 6 VOUT (in) "Output feedback sense input. Connect VOUT to the converter’s output.", 7 AGND (power) "Analog ground. Connect to PGND via the PowerPAD underneath IC.", 8 MODE/SYNC (in) "Input for synchronization to external clock signal. This pin must not be left floating and must be terminated. Synchronizes the converter switching frequency to an external clock signal MODE/SYNC = LOW (GND): The device is (See Datasheet)", 9 PGND (power) "Power ground.", 10 SW (power) "This is the switch pin of the converter and is connected to the drain of the internal Power MOSFETs.", 11 PP (power) "Internally connected to PGND."

## TPS62321DRCRG4
designator U?
Buck Step Down Regulator with 2.7 to 6 V Input and 1.5 V Output, -40 to 85 degC, 10-Pin SON (DRC), Green (RoHS & no Sb/Br); Manufacturer: Texas Instruments; PartNumber: TPS62321DRCRG4; Duty Cycle(Max)(%): 100; Iout(Max)(A): 0.5; Iq(Typ)(mA): 0.086; Preset Vout(V): 1.5; Rating: Catalog; Regulated Outputs(#): 1; SubFamily: Step-Down Regulator; Switch Current Limit(Typ)(A): 0.74; Synchronous Rectification: TRUE; Vin(Max)(V): 6; Vin(Min)(V): 2.7; DatasheetVersion: SLVS528E; PackageVersion: revL, Sep-2011; PackageReference: DRC10-2400X1650TP; PackageDescription: 10-Pin Plastic Small Outline No-Lead, 3 x 3 x 1 mm Body, 0.5 mm Pitch, Exposed Pad; Supplier 1: Digi-Key; Supplier Part Number 1: TPS62321DRCRG4-ND; Eco-Plan: Green (RoHS & no Sb/Br); Topology: Buck; Vout(Max)(V): 1.5; Vout(Min)(V): 1.5; Mounting Technology: Surface Mount; ComponentLink1Description: Datasheet; ComponentLink1URL: http://www.ti.com/general/docs/lit/getliterature.tsp?genericPartNumber=TPS62321&fileType=pdf; ComponentLink2Description: Package Specification; ComponentLink2URL: http://www.ti.com/litv/pdf/mpds117k; ComponentLink3Description: URL Link1; ComponentLink3URL: Samples URL:http://www.ti.com/product/tps62321#samples
footprint DRC10-2400X1650TP (SON, 10-Leads, Body 3x3mm, Pitch 0.5mm, Thermal Pad 2.4x1.65mm, TI Recommended)
pins: 1 VIN (power) "Supply voltage for output power stage.", 2 AVIN (power) "This is the input voltage pin of the device. Connect directly to the input bypass capacitor.", 3 EN (in) "This is the enable pin of the device. Connecting this pin to ground forces the device into shutdown mode. Pulling this pin to VI enables the device. This pin must not be left floating and must be terminated.", 4 ADJ "This is the internal reference voltage used to regulate VO. This pin is not connected on fixed output voltage version of TPS6230xDRC and TPS6232xDRC. Do not connect ADJ pin on fixed output voltage version of TPS6230xYZD, (See Datasheet)", 5 FB "This is the feedback pin of the device. For the adjustable version, an external resistor divider is connected to this pin. The internal voltage divider is disabled for the adjustable version. This pin is not connected on (See Datasheet)", 6 VOUT (in) "Output feedback sense input. Connect VOUT to the converter’s output.", 7 AGND (power) "Analog ground. Connect to PGND via the PowerPAD underneath IC.", 8 MODE/SYNC (in) "Input for synchronization to external clock signal. This pin must not be left floating and must be terminated. Synchronizes the converter switching frequency to an external clock signal MODE/SYNC = LOW (GND): The device is (See Datasheet)", 9 PGND (power) "Power ground.", 10 SW (power) "This is the switch pin of the converter and is connected to the drain of the internal Power MOSFETs.", 11 PP (power) "Internally connected to PGND."

## TPS62400DRCR
designator U?
Buck Adjustable Regulator with 2.5 to 6 V Input and 0.6 to 6 V Output, -40 to 85 degC, 10-Pin SON (DRC), Green (RoHS & no Sb/Br); Manufacturer: Texas Instruments; PartNumber: TPS62400DRCR; Duty Cycle(Max)(%): 100; Dynamic Voltage Scaling: TRUE; Iout(Max)(A): 0.4; Iout2(Max)(A): 0.6; Iq(Typ)(mA): 0.032; Rating: Catalog; Regulated Outputs(#): 2; SubFamily: Step-Down Regulator; Switch Current Limit(Typ)(A): 1; Vin(Max)(V): 6; Vin(Min)(V): 2.5; DatasheetVersion: SLVS681E; PackageVersion: revL, Sep-2011; PackageReference: DRC10-2400X1650TP; PackageDescription: 10-Pin Plastic Small Outline No-Lead, 3 x 3 x 1 mm Body, 0.5 mm Pitch, Exposed Pad; Supplier 1: Digi-Key; Supplier Part Number 1: 296-25491-2-ND; Eco-Plan: Green (RoHS & no Sb/Br); Synchronous Rectification: TRUE; Topology: Buck; Vout(Max)(V): 6; Vout(Min)(V): 0.6; Vout2(Max)(V): 6; Vout2(Min)(V): 0.6; Mounting Technology: Surface Mount; ComponentLink1Description: Datasheet; ComponentLink1URL: http://www.ti.com/general/docs/lit/getliterature.tsp?genericPartNumber=TPS62400&fileType=pdf; ComponentLink2Description: Package Specification; ComponentLink2URL: http://www.ti.com/litv/pdf/mpds117k; ComponentLink3Description: URL Link1; ComponentLink3URL: Samples URL:http://www.ti.com/product/tps62400#samples
footprint DRC10-2400X1650TP (SON, 10-Leads, Body 3x3mm, Pitch 0.5mm, Thermal Pad 2.4x1.65mm, TI Recommended)
pins: 1 ADJ2 (in) "Input to adjust output voltage of converter 2. In adjustable version (TPS62400) connect a external resistor divider between VOUT2, this pin and GND to set output voltage between 0.6V and VIN. At fixed output voltage version (See Datasheet)", 2 MODE/DATA (io) "This Pin has 2 functions: 1. Operation Mode selection: With low level, Power Save Mode is enabled where the device operates in PFM mode at light loads and enters automatically PWM mode at heavy loads. Pulling this PIN to (See Datasheet)", 3 VIN (power) "Supply voltage, connect to VBAT, 2.5V to 6V", 4 FB1 (in) "Direct feedback voltage sense input of converter 1, connect directly to Vout 1. An internal feed forward capacitor is connected between this pin and the error amplifier. In case of fixed output voltage versions or when the (See Datasheet)", 5 DEF_1 (in) "This pin defines the output voltage of converter 1. The pin acts either as analog input for output voltage setting via external resistors (TPS62400). For the TPS62400, an external resistor network needs to be connected to (See Datasheet)", 6 SW1 (power) "Switch Pin of Converter1. Connect to Inductor", 7 EN1 (in) "Enable Input for Converter1, active high", 8 GND (power) "GND for both converters; connect this pin to the PowerPAD", 9 EN2 (in) "Enable Input for Converter 2, active high", 10 SW2 (power) "Switch Pin of Converter 2. Connect to Inductor.", 11 PP (power) "Connect to GND"